# Altium integrated library ATK-OV2640摄像头模块.IntLib: 8 symbols
Pins are listed as number, name and electrical type; pins without a type are passive.

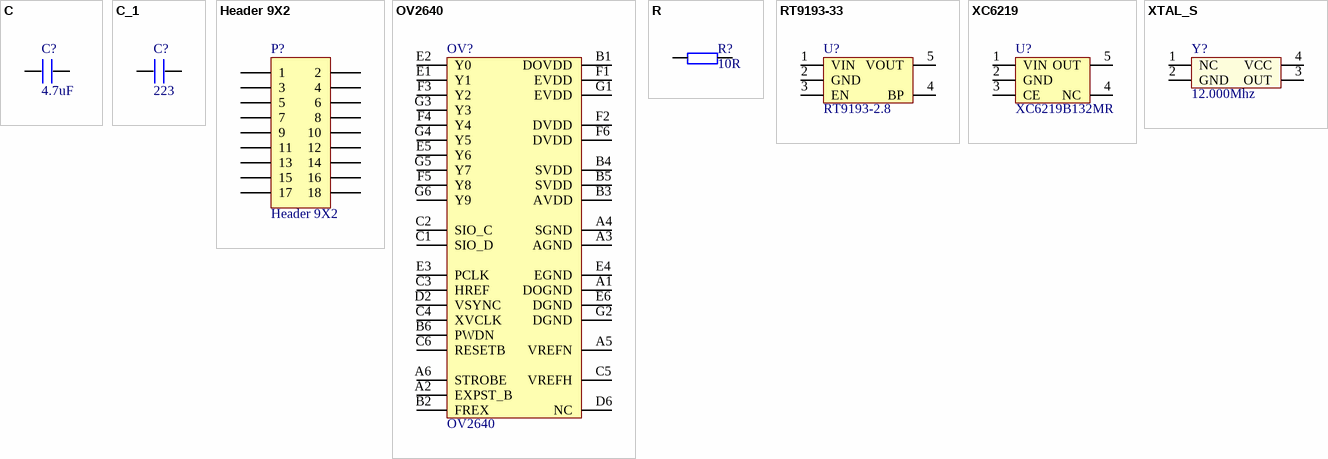
[diagram p0: symbols C to XTAL_S]

## C
designator C?, comment 4.7uF
footprint 0603P
footprint 0805
footprint CC5.08 (CAP0.1)
footprint CC4.572 (222/332)
footprint 1206
footprint 1210
footprint CC6.096
footprint CC7.62
footprint CVAR (4MM*6.6MM)
pins: 1, 2

## C_1
designator C?, comment 223
footprint 0603P
footprint 0805
footprint CC5.08 (CAP0.1)
footprint CC4.572 (222/332)
footprint 1206
footprint 1210
footprint CC6.096
footprint CC7.62
footprint CVAR (4MM*6.6MM)
footprint 0805P
footprint C0805
pins: 1, 2

## Header 9X2
designator P?
Header, 9-Pin, Dual row; LatestRevisionDate: 17-Jul-2002; LatestRevisionNote: Re-released for DXP Platform.; Publisher: Altium Limited
footprint HDR2X9 (Connector; Header; 9x2 Position)
signal-integrity model Connector
pins: 1, 2, 3, 4, 5, 6, 7, 8, 9, 10, 11, 12, 13, 14, 15, 16, 17, 18

## OV2640
designator OV?
footprint ov2640-22 (OV2640带22mm镜头座)
footprint BGA38 (BGA, 42-Leads, Body 6.3x5.7mm,  Pitch 0.80mm)
pins: A1 DOGND, A2 EXPST_B, A3 AGND, A4 SGND, A5 VREFN, A6 STROBE, B1 DOVDD, B2 FREX, B3 AVDD, B4 SVDD, B5 SVDD, B6 PWDN, C1 SIO_D, C2 SIO_C, C3 HREF, C4 XVCLK, C5 VREFH, C6 RESETB, D2 VSYNC, D6 NC, E1 Y1, E2 Y0, E3 PCLK, E4 EGND, E5 Y6, E6 DGND, F1 EVDD, F2 DVDD, F3 Y2, F4 Y4, F5 Y8, F6 DVDD, G1 EVDD, G2 DGND, G3 Y3, G4 Y5, G5 Y7, G6 Y9

## R
designator R?, comment 10R
footprint 0805
footprint 0603P
footprint RL (10o/0.7uH)
footprint R16.0 (RX/1W)
footprint 1206
footprint 1210
footprint R20.0 (RX/2W)
footprint R10.16 (STD)
footprint RLN9 (13.5mm*5.1mm)
pins: 1, 2

## RT9193-33
designator U?, comment RT9193-2.8
3.3V超低压差LDO
footprint SOT-23-5
pins: 1 VIN, 2 GND, 3 EN, 4 BP, 5 VOUT

## XC6219
designator U?, comment XC6219B132MR
footprint SOT-23-5
pins: 1 VIN, 2 GND, 3 CE, 4 NC, 5 OUT

## XTAL_S
designator Y?, comment 12.000Mhz
有源晶振
footprint XTAL_S (XTAL_OSC)
footprint XTAL3225 (3.2mm*2.5mm)
pins: 1 NC, 2 GND, 3 OUT, 4 VCC